# Altium schematic symbol library Conn_Molex_22-29-2031_eec.SchLib: 1 symbol
Pins are listed as number, name and electrical type; pins without a type are passive.

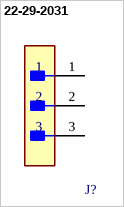
[diagram p0: symbol 22-29-2031]

## 22-29-2031
designator J?  (value not drawn)
pins: 1, 2, 3